# Altium integrated library TI Power Management Linear Regulator Single Channel LDO (400-7500mA).IntLib: 1408 symbols (part 54 of 60)
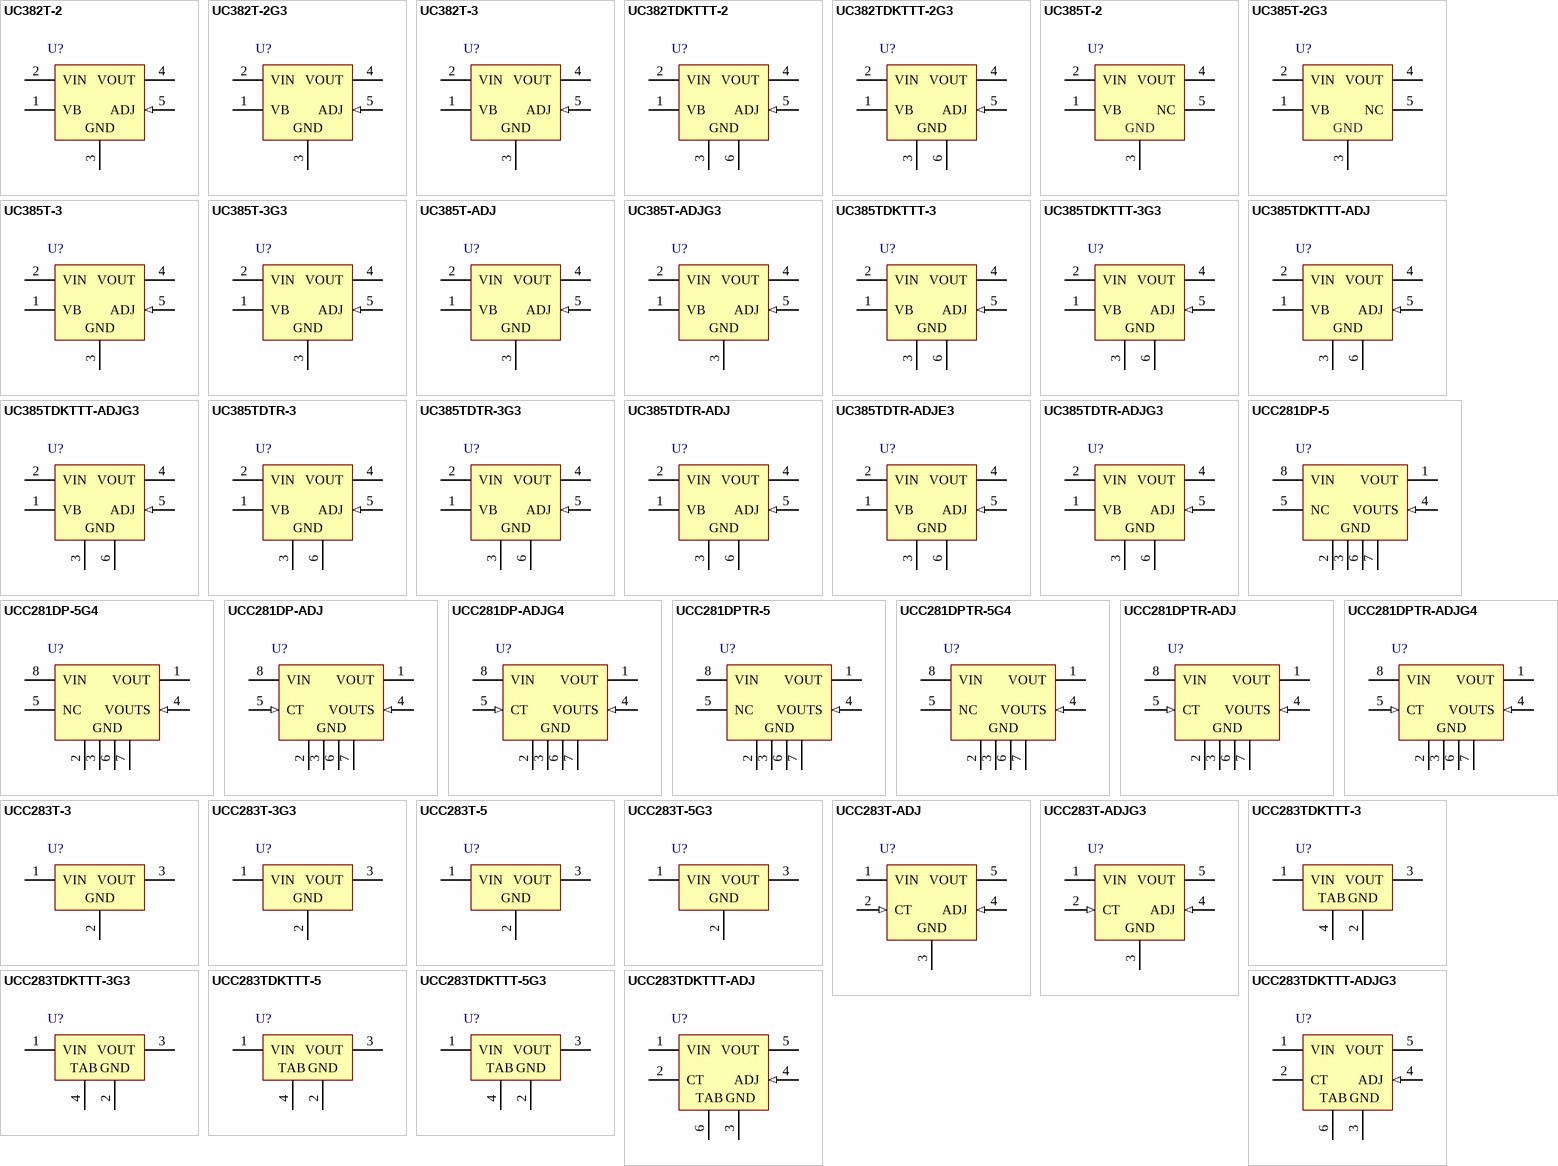
[diagram p103: symbols UC382T-2 to UCC283TDKTTT-ADJG3]

## UC385T-ADJG3
designator U?
Single Output Fast Transient Response LDO, 5 A, Adjustable 1.2 to 6 V Output, 1.7 to 7.5 V Input, with Reverse Current Protection, 5-pin TO-220 (KC), 0 to 70 degC, Green (RoHS & no Sb/Br); Manufacturer: Texas Instruments; PartNumber: UC385T-ADJG3; Accuracy(%): 1; Iout(Max)(A): 5; Iq(Typ)(mA): 8; SubFamily: Single Channel LDO; Vdo(Typ)(mV): 350; Vin(Max)(V): 7.5; Vin(Min)(V): 1.7; Vout Adj(Max)(V): 6; Vout Adj(Min)(V): 1.2; DatasheetVersion: SLUS212F; PackageVersion: 4040208/F; PackageReference: KC5; PackageDescription: 5-Pin Plastic Flange Mount; Supplier 1: Digi-Key; Supplier Part Number 1: UC385T-ADJG3-ND; Supplier 2: Mouser; Supplier Part Number 2: 595-UC385T-ADJG3; Eco-Plan: Green (RoHS & no Sb/Br); Mounting Technology: Through Hole; ComponentLink1Description: Manufacturer URL; ComponentLink1URL: http://www.ti.com/; ComponentLink2Description: Datasheet; ComponentLink2URL: http://www.ti.com/general/docs/lit/getliterature.tsp?genericPartNumber=UC385-ADJ&fileType=pdf; ComponentLink3Description: Package Specification; ComponentLink3URL: http://www.ti.com/litv/pdf/msot008c
footprint TI-KC5 (FM, 5-Leads, Body 10.16x8.46mm, Pitch 1.7mm,)
pins: 1 VB (power) "Supplies power to all circuits of the regulator except the output power transistor. The 2-V headroom from VB to VOUT allows the use of a Darlington output stage for inherently low output impedance and fast response. (Dropout (See Datasheet)", 2 VIN (power) "Supplies the current to the collector of the output power transistor only. The dropout (VIN-VOUT) is under 100 mV for light loads; maximum dropout is 490 mV at 5 A for TJ = 0degreesC to 100degreesC. (Dropout is derated for (See Datasheet)", 3 GND (power) "For accurate results, the GND pin should be referenced to the load ground.", 4 VOUT (power) "This pin should be connected to the load via a low impedance path. Avoid connectors which add significant inductance and resistance. Note that even though a Kelvin sense is available through a 5-pin package, care must be (See Datasheet)", 5 ADJ (in) "In the adjustable version, the user programs the output voltage with two external resistors. The resistors should be 0.1% for high accuracy. The output amplifier is configured as a noninverting operational amplifier. The (See Datasheet)"

## UC385TDKTTT-3
designator U?
Single Output Fast Transient Response LDO, 5 A, Fixed 2.5 V Output, 2.8 to 7.5 V Input, 5-pin DDPAK (KTT), 0 to 70 degC, Green (RoHS & no Sb/Br); Manufacturer: Texas Instruments; PartNumber: UC385TDKTTT-3; Accuracy(%): 1; Fixed Output Options(V): 2.5; Iout(Max)(A): 5; Iq(Typ)(mA): 8; SubFamily: Single Channel LDO; Vdo(Typ)(mV): 350; Vin(Max)(V): 7.5; Vin(Min)(V): 2.8; DatasheetVersion: SLUS212F; PackageVersion: 4200577-3/F; PackageReference: KTT5; PackageDescription: 3-Pin Plastic Flange Mount, Body 10.16 x 10.34 mm, Pitch 1.7 mm; Supplier 1: Digi-Key; Supplier Part Number 1: 296-16025-2-ND; Supplier 2: Digi-Key; Supplier Part Number 2: 296-16025-1-ND; Supplier 3: Digi-Key; Supplier Part Number 3: 296-16025-6-ND; Supplier 4: Newark; Supplier Part Number 4: 87H4747; Supplier 5: Mouser; Supplier Part Number 5: 595-UC385TDKTTT-3; Eco-Plan: Green (RoHS & no Sb/Br); Vout Adj(Max)(V): 2.5; Vout Adj(Min)(V): 2.5; Mounting Technology: Surface Mount; Code_JEDEC: TO-263; ComponentLink1Description: Manufacturer URL; ComponentLink1URL: http://www.ti.com/; ComponentLink2Description: Datasheet; ComponentLink2URL: http://www.ti.com/general/docs/lit/getliterature.tsp?genericPartNumber=UC385-3&fileType=pdf; ComponentLink3Description: Package Specification; ComponentLink3URL: http://www.ti.com/litv/pdf/mpsf007e
footprint TI-KTT5_N (DPAK, 5-Leads, Body 10.16x8.925mm, Pitch 1.7mm, IPC Medium Density)
footprint TI-KTT5_L (DPAK, 5-Leads, Body 10.16x8.925mm, Pitch 1.7mm, IPC High Density)
footprint TI-KTT5_M (DPAK, 5-Leads, Body 10.16x8.925mm, Pitch 1.7mm, IPC Low Density)
pins: 1 VB (power) "Supplies power to all circuits of the regulator except the output power transistor. The 2-V headroom from VB to VOUT allows the use of a Darlington output stage for inherently low output impedance and fast response. (Dropout (See Datasheet)", 2 VIN (power) "Supplies the current to the collector of the output power transistor only. The dropout (VIN-VOUT) is under 100 mV for light loads; maximum dropout is 490 mV at 5 A for TJ = 0degreesC to 100degreesC. (Dropout is derated for (See Datasheet)", 3 GND (power) "For accurate results, the GND pin should be referenced to the load ground", 4 VOUT (power) "This pin should be connected to the load via a low impedance path. Avoid connectors which add significant inductance and resistance. Note that even though a Kelvin sense is available through a 5-pin package, care must be (See Datasheet)", 5 ADJ (in) "In the adjustable version, the user programs the output voltage with two external resistors. The resistors should be 0.1% for high accuracy. The output amplifier is configured as a noninverting operational amplifier. The (See Datasheet)", 6 GND (power) "For accurate results, the GND pin should be referenced to the load ground"

## UC385TDKTTT-3G3
designator U?
Single Output Fast Transient Response LDO, 5 A, Fixed 2.5 V Output, 2.8 to 7.5 V Input, 5-pin DDPAK (KTT), 0 to 70 degC, Green (RoHS & no Sb/Br); Manufacturer: Texas Instruments; PartNumber: UC385TDKTTT-3G3; Accuracy(%): 1; Fixed Output Options(V): 2.5; Iout(Max)(A): 5; Iq(Typ)(mA): 8; SubFamily: Single Channel LDO; Vdo(Typ)(mV): 350; Vin(Max)(V): 7.5; Vin(Min)(V): 2.8; DatasheetVersion: SLUS212F; PackageVersion: 4200577-3/F; PackageReference: KTT5; PackageDescription: 3-Pin Plastic Flange Mount, Body 10.16 x 10.34 mm, Pitch 1.7 mm; Supplier 1: Digi-Key; Supplier Part Number 1: UC385TDKTTT-3G3-ND; Supplier 2: Mouser; Supplier Part Number 2: 595-UC385TDKTTT-3G3; Eco-Plan: Green (RoHS & no Sb/Br); Vout Adj(Max)(V): 2.5; Vout Adj(Min)(V): 2.5; Mounting Technology: Surface Mount; Code_JEDEC: TO-263; ComponentLink1Description: Manufacturer URL; ComponentLink1URL: http://www.ti.com/; ComponentLink2Description: Datasheet; ComponentLink2URL: http://www.ti.com/general/docs/lit/getliterature.tsp?genericPartNumber=UC385-3&fileType=pdf; ComponentLink3Description: Package Specification; ComponentLink3URL: http://www.ti.com/litv/pdf/mpsf007e
footprint TI-KTT5_N (DPAK, 5-Leads, Body 10.16x8.925mm, Pitch 1.7mm, IPC Medium Density)
footprint TI-KTT5_L (DPAK, 5-Leads, Body 10.16x8.925mm, Pitch 1.7mm, IPC High Density)
footprint TI-KTT5_M (DPAK, 5-Leads, Body 10.16x8.925mm, Pitch 1.7mm, IPC Low Density)
pins: 1 VB (power) "Supplies power to all circuits of the regulator except the output power transistor. The 2-V headroom from VB to VOUT allows the use of a Darlington output stage for inherently low output impedance and fast response. (Dropout (See Datasheet)", 2 VIN (power) "Supplies the current to the collector of the output power transistor only. The dropout (VIN-VOUT) is under 100 mV for light loads; maximum dropout is 490 mV at 5 A for TJ = 0degreesC to 100degreesC. (Dropout is derated for (See Datasheet)", 3 GND (power) "For accurate results, the GND pin should be referenced to the load ground", 4 VOUT (power) "This pin should be connected to the load via a low impedance path. Avoid connectors which add significant inductance and resistance. Note that even though a Kelvin sense is available through a 5-pin package, care must be (See Datasheet)", 5 ADJ (in) "In the adjustable version, the user programs the output voltage with two external resistors. The resistors should be 0.1% for high accuracy. The output amplifier is configured as a noninverting operational amplifier. The (See Datasheet)", 6 GND (power) "For accurate results, the GND pin should be referenced to the load ground"

## UC385TDKTTT-ADJ
designator U?
Single Output Fast Transient Response LDO, 5 A, Adjustable 1.2 to 6 V Output, 1.7 to 7.5 V Input, with Reverse Current Protection, 5-pin DDPAK (KTT), 0 to 70 degC, Green (RoHS & no Sb/Br); Manufacturer: Texas Instruments; PartNumber: UC385TDKTTT-ADJ; Accuracy(%): 1; Iout(Max)(A): 5; Iq(Typ)(mA): 8; SubFamily: Single Channel LDO; Vdo(Typ)(mV): 350; Vin(Max)(V): 7.5; Vin(Min)(V): 1.7; Vout Adj(Max)(V): 6; Vout Adj(Min)(V): 1.2; DatasheetVersion: SLUS212F; PackageVersion: 4200577-3/F; PackageReference: KTT5; PackageDescription: 3-Pin Plastic Flange Mount, Body 10.16 x 10.34 mm, Pitch 1.7 mm; Supplier 1: Digi-Key; Supplier Part Number 1: 296-16026-2-ND; Supplier 2: Digi-Key; Supplier Part Number 2: 296-16026-1-ND; Supplier 3: Digi-Key; Supplier Part Number 3: 296-16026-6-ND; Supplier 4: Newark; Supplier Part Number 4: 87H4744; Supplier 5: Mouser; Supplier Part Number 5: 595-UC385TDKTTT-ADJ; Eco-Plan: Green (RoHS & no Sb/Br); Mounting Technology: Surface Mount; Code_JEDEC: TO-263; ComponentLink1Description: Manufacturer URL; ComponentLink1URL: http://www.ti.com/; ComponentLink2Description: Datasheet; ComponentLink2URL: http://www.ti.com/general/docs/lit/getliterature.tsp?genericPartNumber=UC385-ADJ&fileType=pdf; ComponentLink3Description: Package Specification; ComponentLink3URL: http://www.ti.com/litv/pdf/mpsf007e
footprint TI-KTT5_N (DPAK, 5-Leads, Body 10.16x8.925mm, Pitch 1.7mm, IPC Medium Density)
footprint TI-KTT5_L (DPAK, 5-Leads, Body 10.16x8.925mm, Pitch 1.7mm, IPC High Density)
footprint TI-KTT5_M (DPAK, 5-Leads, Body 10.16x8.925mm, Pitch 1.7mm, IPC Low Density)
pins: 1 VB (power) "Supplies power to all circuits of the regulator except the output power transistor. The 2-V headroom from VB to VOUT allows the use of a Darlington output stage for inherently low output impedance and fast response. (Dropout (See Datasheet)", 2 VIN (power) "Supplies the current to the collector of the output power transistor only. The dropout (VIN-VOUT) is under 100 mV for light loads; maximum dropout is 490 mV at 5 A for TJ = 0degreesC to 100degreesC. (Dropout is derated for (See Datasheet)", 3 GND (power) "For accurate results, the GND pin should be referenced to the load ground", 4 VOUT (power) "This pin should be connected to the load via a low impedance path. Avoid connectors which add significant inductance and resistance. Note that even though a Kelvin sense is available through a 5-pin package, care must be (See Datasheet)", 5 ADJ (in) "In the adjustable version, the user programs the output voltage with two external resistors. The resistors should be 0.1% for high accuracy. The output amplifier is configured as a noninverting operational amplifier. The (See Datasheet)", 6 GND (power) "For accurate results, the GND pin should be referenced to the load ground"

## UC385TDKTTT-ADJG3
designator U?
Single Output Fast Transient Response LDO, 5 A, Adjustable 1.2 to 6 V Output, 1.7 to 7.5 V Input, with Reverse Current Protection, 5-pin DDPAK (KTT), 0 to 70 degC, Green (RoHS & no Sb/Br); Manufacturer: Texas Instruments; PartNumber: UC385TDKTTT-ADJG3; Accuracy(%): 1; Iout(Max)(A): 5; Iq(Typ)(mA): 8; SubFamily: Single Channel LDO; Vdo(Typ)(mV): 350; Vin(Max)(V): 7.5; Vin(Min)(V): 1.7; Vout Adj(Max)(V): 6; Vout Adj(Min)(V): 1.2; DatasheetVersion: SLUS212F; PackageVersion: 4200577-3/F; PackageReference: KTT5; PackageDescription: 3-Pin Plastic Flange Mount, Body 10.16 x 10.34 mm, Pitch 1.7 mm; Supplier 1: Digi-Key; Supplier Part Number 1: UC385TDKTTT-ADJG3-ND; Supplier 2: Newark; Supplier Part Number 2: 58K7132; Supplier 3: Mouser; Supplier Part Number 3: 595-UC385TDKTTADJG3; Eco-Plan: Green (RoHS & no Sb/Br); Mounting Technology: Surface Mount; Code_JEDEC: TO-263; ComponentLink1Description: Manufacturer URL; ComponentLink1URL: http://www.ti.com/; ComponentLink2Description: Datasheet; ComponentLink2URL: http://www.ti.com/general/docs/lit/getliterature.tsp?genericPartNumber=UC385-ADJ&fileType=pdf; ComponentLink3Description: Package Specification; ComponentLink3URL: http://www.ti.com/litv/pdf/mpsf007e
footprint TI-KTT5_N (DPAK, 5-Leads, Body 10.16x8.925mm, Pitch 1.7mm, IPC Medium Density)
footprint TI-KTT5_L (DPAK, 5-Leads, Body 10.16x8.925mm, Pitch 1.7mm, IPC High Density)
footprint TI-KTT5_M (DPAK, 5-Leads, Body 10.16x8.925mm, Pitch 1.7mm, IPC Low Density)
pins: 1 VB (power) "Supplies power to all circuits of the regulator except the output power transistor. The 2-V headroom from VB to VOUT allows the use of a Darlington output stage for inherently low output impedance and fast response. (Dropout (See Datasheet)", 2 VIN (power) "Supplies the current to the collector of the output power transistor only. The dropout (VIN-VOUT) is under 100 mV for light loads; maximum dropout is 490 mV at 5 A for TJ = 0degreesC to 100degreesC. (Dropout is derated for (See Datasheet)", 3 GND (power) "For accurate results, the GND pin should be referenced to the load ground", 4 VOUT (power) "This pin should be connected to the load via a low impedance path. Avoid connectors which add significant inductance and resistance. Note that even though a Kelvin sense is available through a 5-pin package, care must be (See Datasheet)", 5 ADJ (in) "In the adjustable version, the user programs the output voltage with two external resistors. The resistors should be 0.1% for high accuracy. The output amplifier is configured as a noninverting operational amplifier. The (See Datasheet)", 6 GND (power) "For accurate results, the GND pin should be referenced to the load ground"

## UC385TDTR-3
designator U?
Single Output Fast Transient Response LDO, 5 A, Fixed 2.5 V Output, 2.8 to 7.5 V Input, 5-pin DDPAK (KTT), 0 to 70 degC, Green (RoHS & no Sb/Br); Manufacturer: Texas Instruments; PartNumber: UC385TDTR-3; Accuracy(%): 1; Fixed Output Options(V): 2.5; Iout(Max)(A): 5; Iq(Typ)(mA): 8; SubFamily: Single Channel LDO; Vdo(Typ)(mV): 350; Vin(Max)(V): 7.5; Vin(Min)(V): 2.8; DatasheetVersion: SLUS212F; PackageVersion: 4200577-3/F; PackageReference: KTT5; PackageDescription: 3-Pin Plastic Flange Mount, Body 10.16 x 10.34 mm, Pitch 1.7 mm; Supplier 1: Digi-Key; Supplier Part Number 1: 296-19034-2-ND; Supplier 2: Digi-Key; Supplier Part Number 2: 296-19034-1-ND; Supplier 3: Digi-Key; Supplier Part Number 3: 296-19034-6-ND; Supplier 4: Mouser; Supplier Part Number 4: 595-UC385TDTR-3; Eco-Plan: Green (RoHS & no Sb/Br); Vout Adj(Max)(V): 2.5; Vout Adj(Min)(V): 2.5; Mounting Technology: Surface Mount; Code_JEDEC: TO-263; ComponentLink1Description: Manufacturer URL; ComponentLink1URL: http://www.ti.com/; ComponentLink2Description: Datasheet; ComponentLink2URL: http://www.ti.com/general/docs/lit/getliterature.tsp?genericPartNumber=UC385-3&fileType=pdf; ComponentLink3Description: Package Specification; ComponentLink3URL: http://www.ti.com/litv/pdf/mpsf007e
footprint TI-KTT5_N (DPAK, 5-Leads, Body 10.16x8.925mm, Pitch 1.7mm, IPC Medium Density)
footprint TI-KTT5_L (DPAK, 5-Leads, Body 10.16x8.925mm, Pitch 1.7mm, IPC High Density)
footprint TI-KTT5_M (DPAK, 5-Leads, Body 10.16x8.925mm, Pitch 1.7mm, IPC Low Density)
pins: 1 VB (power) "Supplies power to all circuits of the regulator except the output power transistor. The 2-V headroom from VB to VOUT allows the use of a Darlington output stage for inherently low output impedance and fast response. (Dropout (See Datasheet)", 2 VIN (power) "Supplies the current to the collector of the output power transistor only. The dropout (VIN-VOUT) is under 100 mV for light loads; maximum dropout is 490 mV at 5 A for TJ = 0degreesC to 100degreesC. (Dropout is derated for (See Datasheet)", 3 GND (power) "For accurate results, the GND pin should be referenced to the load ground", 4 VOUT (power) "This pin should be connected to the load via a low impedance path. Avoid connectors which add significant inductance and resistance. Note that even though a Kelvin sense is available through a 5-pin package, care must be (See Datasheet)", 5 ADJ (in) "In the adjustable version, the user programs the output voltage with two external resistors. The resistors should be 0.1% for high accuracy. The output amplifier is configured as a noninverting operational amplifier. The (See Datasheet)", 6 GND (power) "For accurate results, the GND pin should be referenced to the load ground"

## UC385TDTR-3G3
designator U?
Single Output Fast Transient Response LDO, 5 A, Fixed 2.5 V Output, 2.8 to 7.5 V Input, 5-pin DDPAK (KTT), 0 to 70 degC, Green (RoHS & no Sb/Br); Manufacturer: Texas Instruments; PartNumber: UC385TDTR-3G3; Accuracy(%): 1; Fixed Output Options(V): 2.5; Iout(Max)(A): 5; Iq(Typ)(mA): 8; SubFamily: Single Channel LDO; Vdo(Typ)(mV): 350; Vin(Max)(V): 7.5; Vin(Min)(V): 2.8; DatasheetVersion: SLUS212F; PackageVersion: 4200577-3/F; PackageReference: KTT5; PackageDescription: 3-Pin Plastic Flange Mount, Body 10.16 x 10.34 mm, Pitch 1.7 mm; Supplier 1: Digi-Key; Supplier Part Number 1: UC385TDTR-3G3-ND; Supplier 2: Mouser; Supplier Part Number 2: 595-UC385TDTR-3G3; Eco-Plan: Green (RoHS & no Sb/Br); Vout Adj(Max)(V): 2.5; Vout Adj(Min)(V): 2.5; Mounting Technology: Surface Mount; Code_JEDEC: TO-263; ComponentLink1Description: Manufacturer URL; ComponentLink1URL: http://www.ti.com/; ComponentLink2Description: Datasheet; ComponentLink2URL: http://www.ti.com/general/docs/lit/getliterature.tsp?genericPartNumber=UC385-3&fileType=pdf; ComponentLink3Description: Package Specification; ComponentLink3URL: http://www.ti.com/litv/pdf/mpsf007e
footprint TI-KTT5_N (DPAK, 5-Leads, Body 10.16x8.925mm, Pitch 1.7mm, IPC Medium Density)
footprint TI-KTT5_L (DPAK, 5-Leads, Body 10.16x8.925mm, Pitch 1.7mm, IPC High Density)
footprint TI-KTT5_M (DPAK, 5-Leads, Body 10.16x8.925mm, Pitch 1.7mm, IPC Low Density)
pins: 1 VB (power) "Supplies power to all circuits of the regulator except the output power transistor. The 2-V headroom from VB to VOUT allows the use of a Darlington output stage for inherently low output impedance and fast response. (Dropout (See Datasheet)", 2 VIN (power) "Supplies the current to the collector of the output power transistor only. The dropout (VIN-VOUT) is under 100 mV for light loads; maximum dropout is 490 mV at 5 A for TJ = 0degreesC to 100degreesC. (Dropout is derated for (See Datasheet)", 3 GND (power) "For accurate results, the GND pin should be referenced to the load ground", 4 VOUT (power) "This pin should be connected to the load via a low impedance path. Avoid connectors which add significant inductance and resistance. Note that even though a Kelvin sense is available through a 5-pin package, care must be (See Datasheet)", 5 ADJ (in) "In the adjustable version, the user programs the output voltage with two external resistors. The resistors should be 0.1% for high accuracy. The output amplifier is configured as a noninverting operational amplifier. The (See Datasheet)", 6 GND (power) "For accurate results, the GND pin should be referenced to the load ground"

## UC385TDTR-ADJ
designator U?
Single Output Fast Transient Response LDO, 5 A, Adjustable 1.2 to 6 V Output, 1.7 to 7.5 V Input, with Reverse Current Protection, 5-pin DDPAK (KTT), 0 to 70 degC, Green (RoHS & no Sb/Br); Manufacturer: Texas Instruments; PartNumber: UC385TDTR-ADJ; Accuracy(%): 1; Iout(Max)(A): 5; Iq(Typ)(mA): 8; SubFamily: Single Channel LDO; Vdo(Typ)(mV): 350; Vin(Max)(V): 7.5; Vin(Min)(V): 1.7; Vout Adj(Max)(V): 6; Vout Adj(Min)(V): 1.2; DatasheetVersion: SLUS212F; PackageVersion: 4200577-3/F; PackageReference: KTT5; PackageDescription: 3-Pin Plastic Flange Mount, Body 10.16 x 10.34 mm, Pitch 1.7 mm; Supplier 1: Digi-Key; Supplier Part Number 1: UC385TDTR-ADJ-ND; Supplier 2: Newark; Supplier Part Number 2: 22H2024; Supplier 3: Mouser; Supplier Part Number 3: 595-UC385TDTR-ADJ; Eco-Plan: Green (RoHS & no Sb/Br); Mounting Technology: Surface Mount; Code_JEDEC: TO-263; ComponentLink1Description: Manufacturer URL; ComponentLink1URL: http://www.ti.com/; ComponentLink2Description: Datasheet; ComponentLink2URL: http://www.ti.com/general/docs/lit/getliterature.tsp?genericPartNumber=UC385-ADJ&fileType=pdf; ComponentLink3Description: Package Specification; ComponentLink3URL: http://www.ti.com/litv/pdf/mpsf007e
footprint TI-KTT5_N (DPAK, 5-Leads, Body 10.16x8.925mm, Pitch 1.7mm, IPC Medium Density)
footprint TI-KTT5_L (DPAK, 5-Leads, Body 10.16x8.925mm, Pitch 1.7mm, IPC High Density)
footprint TI-KTT5_M (DPAK, 5-Leads, Body 10.16x8.925mm, Pitch 1.7mm, IPC Low Density)
pins: 1 VB (power) "Supplies power to all circuits of the regulator except the output power transistor. The 2-V headroom from VB to VOUT allows the use of a Darlington output stage for inherently low output impedance and fast response. (Dropout (See Datasheet)", 2 VIN (power) "Supplies the current to the collector of the output power transistor only. The dropout (VIN-VOUT) is under 100 mV for light loads; maximum dropout is 490 mV at 5 A for TJ = 0degreesC to 100degreesC. (Dropout is derated for (See Datasheet)", 3 GND (power) "For accurate results, the GND pin should be referenced to the load ground", 4 VOUT (power) "This pin should be connected to the load via a low impedance path. Avoid connectors which add significant inductance and resistance. Note that even though a Kelvin sense is available through a 5-pin package, care must be (See Datasheet)", 5 ADJ (in) "In the adjustable version, the user programs the output voltage with two external resistors. The resistors should be 0.1% for high accuracy. The output amplifier is configured as a noninverting operational amplifier. The (See Datasheet)", 6 GND (power) "For accurate results, the GND pin should be referenced to the load ground"

## UC385TDTR-ADJE3
designator U?
Single Output Fast Transient Response LDO, 5 A, Adjustable 1.2 to 6 V Output, 1.7 to 7.5 V Input, with Reverse Current Protection, 5-pin DDPAK (KTT), 0 to 70 degC, Green (RoHS & no Sb/Br); Manufacturer: Texas Instruments; PartNumber: UC385TDTR-ADJE3; Accuracy(%): 1; Iout(Max)(A): 5; Iq(Typ)(mA): 8; SubFamily: Single Channel LDO; Vdo(Typ)(mV): 350; Vin(Max)(V): 7.5; Vin(Min)(V): 1.7; Vout Adj(Max)(V): 6; Vout Adj(Min)(V): 1.2; DatasheetVersion: SLUS212F; PackageVersion: 4200577-3/F; PackageReference: KTT5; PackageDescription: 3-Pin Plastic Flange Mount, Body 10.16 x 10.34 mm, Pitch 1.7 mm; Supplier 1: Digi-Key; Supplier Part Number 1: UC385TDTR-ADJE3-ND; Supplier 2: Mouser; Supplier Part Number 2: 595-UC385TDTR-ADJE3; Eco-Plan: Green (RoHS & no Sb/Br); Mounting Technology: Surface Mount; Code_JEDEC: TO-263; ComponentLink1Description: Manufacturer URL; ComponentLink1URL: http://www.ti.com/; ComponentLink2Description: Datasheet; ComponentLink2URL: http://www.ti.com/general/docs/lit/getliterature.tsp?genericPartNumber=UC385-ADJ&fileType=pdf; ComponentLink3Description: Package Specification; ComponentLink3URL: http://www.ti.com/litv/pdf/mpsf007e
footprint TI-KTT5_N (DPAK, 5-Leads, Body 10.16x8.925mm, Pitch 1.7mm, IPC Medium Density)
footprint TI-KTT5_L (DPAK, 5-Leads, Body 10.16x8.925mm, Pitch 1.7mm, IPC High Density)
footprint TI-KTT5_M (DPAK, 5-Leads, Body 10.16x8.925mm, Pitch 1.7mm, IPC Low Density)
pins: 1 VB (power) "Supplies power to all circuits of the regulator except the output power transistor. The 2-V headroom from VB to VOUT allows the use of a Darlington output stage for inherently low output impedance and fast response. (Dropout (See Datasheet)", 2 VIN (power) "Supplies the current to the collector of the output power transistor only. The dropout (VIN-VOUT) is under 100 mV for light loads; maximum dropout is 490 mV at 5 A for TJ = 0degreesC to 100degreesC. (Dropout is derated for (See Datasheet)", 3 GND (power) "For accurate results, the GND pin should be referenced to the load ground", 4 VOUT (power) "This pin should be connected to the load via a low impedance path. Avoid connectors which add significant inductance and resistance. Note that even though a Kelvin sense is available through a 5-pin package, care must be (See Datasheet)", 5 ADJ (in) "In the adjustable version, the user programs the output voltage with two external resistors. The resistors should be 0.1% for high accuracy. The output amplifier is configured as a noninverting operational amplifier. The (See Datasheet)", 6 GND (power) "For accurate results, the GND pin should be referenced to the load ground"

## UC385TDTR-ADJG3
designator U?
Single Output Fast Transient Response LDO, 5 A, Adjustable 1.2 to 6 V Output, 1.7 to 7.5 V Input, with Reverse Current Protection, 5-pin DDPAK (KTT), 0 to 70 degC, Green (RoHS & no Sb/Br); Manufacturer: Texas Instruments; PartNumber: UC385TDTR-ADJG3; Accuracy(%): 1; Iout(Max)(A): 5; Iq(Typ)(mA): 8; SubFamily: Single Channel LDO; Vdo(Typ)(mV): 350; Vin(Max)(V): 7.5; Vin(Min)(V): 1.7; Vout Adj(Max)(V): 6; Vout Adj(Min)(V): 1.2; DatasheetVersion: SLUS212F; PackageVersion: 4200577-3/F; PackageReference: KTT5; PackageDescription: 3-Pin Plastic Flange Mount, Body 10.16 x 10.34 mm, Pitch 1.7 mm; Supplier 1: Digi-Key; Supplier Part Number 1: UC385TDTR-ADJG3-ND; Supplier 2: Mouser; Supplier Part Number 2: 595-UC385TDTR-ADJG3; Eco-Plan: Green (RoHS & no Sb/Br); Mounting Technology: Surface Mount; Code_JEDEC: TO-263; ComponentLink1Description: Manufacturer URL; ComponentLink1URL: http://www.ti.com/; ComponentLink2Description: Datasheet; ComponentLink2URL: http://www.ti.com/general/docs/lit/getliterature.tsp?genericPartNumber=UC385-ADJ&fileType=pdf; ComponentLink3Description: Package Specification; ComponentLink3URL: http://www.ti.com/litv/pdf/mpsf007e
footprint TI-KTT5_N (DPAK, 5-Leads, Body 10.16x8.925mm, Pitch 1.7mm, IPC Medium Density)
footprint TI-KTT5_L (DPAK, 5-Leads, Body 10.16x8.925mm, Pitch 1.7mm, IPC High Density)
footprint TI-KTT5_M (DPAK, 5-Leads, Body 10.16x8.925mm, Pitch 1.7mm, IPC Low Density)
pins: 1 VB (power) "Supplies power to all circuits of the regulator except the output power transistor. The 2-V headroom from VB to VOUT allows the use of a Darlington output stage for inherently low output impedance and fast response. (Dropout (See Datasheet)", 2 VIN (power) "Supplies the current to the collector of the output power transistor only. The dropout (VIN-VOUT) is under 100 mV for light loads; maximum dropout is 490 mV at 5 A for TJ = 0degreesC to 100degreesC. (Dropout is derated for (See Datasheet)", 3 GND (power) "For accurate results, the GND pin should be referenced to the load ground", 4 VOUT (power) "This pin should be connected to the load via a low impedance path. Avoid connectors which add significant inductance and resistance. Note that even though a Kelvin sense is available through a 5-pin package, care must be (See Datasheet)", 5 ADJ (in) "In the adjustable version, the user programs the output voltage with two external resistors. The resistors should be 0.1% for high accuracy. The output amplifier is configured as a noninverting operational amplifier. The (See Datasheet)", 6 GND (power) "For accurate results, the GND pin should be referenced to the load ground"

## UCC281DP-5
designator U?
Single Output LDO, 1 A, Fixed 5 V Output, 5.6 to 9 V Input, with Low IQ, 8-pin SOIC (D), -40 to 85 degC, Green (RoHS & no Sb/Br); Manufacturer: Texas Instruments; PartNumber: UCC281DP-5; Accuracy(%): 2.5; Fixed Output Options(V): 5; Iout(Max)(A): 1; Iq(Typ)(mA): 0.4; Rating: Catalog; SubFamily: Single Channel LDO; Vdo(Typ)(mV): 500; Vin(Max)(V): 9; Vin(Min)(V): 5.6; DatasheetVersion: SLUS214B; PackageVersion: 4040047-3/M; PackageReference: D8; PackageDescription: 8-Pin Plastic Small Outline, Body 4.9 x 3.9 mm, Pitch 1.27 mm; Supplier 1: Digi-Key; Supplier Part Number 1: 296-2817-5-ND; Supplier 2: Mouser; Supplier Part Number 2: 595-UCC281DP-5; Eco-Plan: Green (RoHS & no Sb/Br); Vout Adj(Max)(V): 5; Vout Adj(Min)(V): 5; Mounting Technology: Surface Mount; Code_JEDEC: MS-012; ComponentLink1Description: Manufacturer URL; ComponentLink1URL: http://www.ti.com/; ComponentLink2Description: Datasheet; ComponentLink2URL: http://www.ti.com/general/docs/lit/getliterature.tsp?genericPartNumber=UCC281-5&fileType=pdf; ComponentLink3Description: Package Specification; ComponentLink3URL: http://www.ti.com/litv/pdf/msoi002j; ComponentLink4Description: URL Link1; ComponentLink4URL: Samples URL:http://www.ti.com/product/ucc281-5#samples
footprint TI-D8_N (SOIC, 8-Leads, Body 4.9x3.9mm, Pitch 1.27mm, IPC Medium Density)
footprint TI-D8_L (SOIC, 8-Leads, Body 4.9x3.9mm, Pitch 1.27mm, IPC High Density)
footprint TI-D8_M (SOIC, 8-Leads, Body 4.9x3.9mm, Pitch 1.27mm, IPC Low Density)
pins: 1 VOUT (power) "Output for regulator. The regulator does not require a minimum output capacitor for stability. Choose the appropriate size capacitor for the application with respect to the required transient loading. For example, if the (See Datasheet)", 2 GND (power) "All voltages are measured with respect to this pin.This is the low noise ground reference input for regulation. The output decoupling capacitor should be tied to PIN 7.", 3 GND (power) "All voltages are measured with respect to this pin.This is the low noise ground reference input for regulation. The output decoupling capacitor should be tied to PIN 7.", 4 VOUTS (in) "Feedback for regulator sensing of the output voltage. For loads which are a considerable resistive distance from the VOUT pin, the VOUTS pin can be used to move the resistance into the control loop of the regulator,thereby (See Datasheet)", 5 NC "No connection", 6 GND (power) "All voltages are measured with respect to this pin.This is the low noise ground reference input for regulation. The output decoupling capacitor should be tied to PIN 7.", 7 GND (power) "All voltages are measured with respect to this pin.This is the low noise ground reference input for regulation. The output decoupling capacitor should be tied to PIN 7.", 8 VIN (power) "Positive supply input for the regulator. Bypass this pin to GND with at least 1µF of low ESR, ESL capacitance if the source is located further than 1 inch from the device."

## UCC281DP-5G4
designator U?
Single Output LDO, 1 A, Fixed 5 V Output, 5.6 to 9 V Input, with Low IQ, 8-pin SOIC (D), -40 to 85 degC, Green (RoHS & no Sb/Br); Manufacturer: Texas Instruments; PartNumber: UCC281DP-5G4; Accuracy(%): 2.5; Fixed Output Options(V): 5; Iout(Max)(A): 1; Iq(Typ)(mA): 0.4; Rating: Catalog; SubFamily: Single Channel LDO; Vdo(Typ)(mV): 500; Vin(Max)(V): 9; Vin(Min)(V): 5.6; DatasheetVersion: SLUS214B; PackageVersion: 4040047-3/M; PackageReference: D8; PackageDescription: 8-Pin Plastic Small Outline, Body 4.9 x 3.9 mm, Pitch 1.27 mm; Supplier 1: Digi-Key; Supplier Part Number 1: UCC281DP-5G4-ND; Supplier 2: Mouser; Supplier Part Number 2: 595-UCC281DP-5G4; Eco-Plan: Green (RoHS & no Sb/Br); Vout Adj(Max)(V): 5; Vout Adj(Min)(V): 5; Mounting Technology: Surface Mount; Code_JEDEC: MS-012; ComponentLink1Description: Manufacturer URL; ComponentLink1URL: http://www.ti.com/; ComponentLink2Description: Datasheet; ComponentLink2URL: http://www.ti.com/general/docs/lit/getliterature.tsp?genericPartNumber=UCC281-5&fileType=pdf; ComponentLink3Description: Package Specification; ComponentLink3URL: http://www.ti.com/litv/pdf/msoi002j; ComponentLink4Description: URL Link1; ComponentLink4URL: Samples URL:http://www.ti.com/product/ucc281-5#samples
footprint TI-D8_N (SOIC, 8-Leads, Body 4.9x3.9mm, Pitch 1.27mm, IPC Medium Density)
footprint TI-D8_L (SOIC, 8-Leads, Body 4.9x3.9mm, Pitch 1.27mm, IPC High Density)
footprint TI-D8_M (SOIC, 8-Leads, Body 4.9x3.9mm, Pitch 1.27mm, IPC Low Density)
pins: 1 VOUT (power) "Output for regulator. The regulator does not require a minimum output capacitor for stability. Choose the appropriate size capacitor for the application with respect to the required transient loading. For example, if the (See Datasheet)", 2 GND (power) "All voltages are measured with respect to this pin.This is the low noise ground reference input for regulation. The output decoupling capacitor should be tied to PIN 7.", 3 GND (power) "All voltages are measured with respect to this pin.This is the low noise ground reference input for regulation. The output decoupling capacitor should be tied to PIN 7.", 4 VOUTS (in) "Feedback for regulator sensing of the output voltage. For loads which are a considerable resistive distance from the VOUT pin, the VOUTS pin can be used to move the resistance into the control loop of the regulator,thereby (See Datasheet)", 5 NC "No connection", 6 GND (power) "All voltages are measured with respect to this pin.This is the low noise ground reference input for regulation. The output decoupling capacitor should be tied to PIN 7.", 7 GND (power) "All voltages are measured with respect to this pin.This is the low noise ground reference input for regulation. The output decoupling capacitor should be tied to PIN 7.", 8 VIN (power) "Positive supply input for the regulator. Bypass this pin to GND with at least 1µF of low ESR, ESL capacitance if the source is located further than 1 inch from the device."

## UCC281DP-ADJ
designator U?
Single Output LDO, 1 A, Adjustable 1.2 to 8.8 V Output, 1.8 to 9 V Input, with Low IQ, 8-pin SOIC (D), -40 to 85 degC, Green (RoHS & no Sb/Br); Manufacturer: Texas Instruments; PartNumber: UCC281DP-ADJ; Accuracy(%): 2.5; Iout(Max)(A): 1; Iq(Typ)(mA): 0.4; Rating: Catalog; SubFamily: Single Channel LDO; Vdo(Typ)(mV): 500; Vin(Max)(V): 9; Vin(Min)(V): 1.8; Vout Adj(Max)(V): 8.8; Vout Adj(Min)(V): 1.2; DatasheetVersion: SLUS214B; PackageVersion: 4040047-3/M; PackageReference: D8; PackageDescription: 8-Pin Plastic Small Outline, Body 4.9 x 3.9 mm, Pitch 1.27 mm; Supplier 1: Digi-Key; Supplier Part Number 1: 296-2818-5-ND; Supplier 2: Mouser; Supplier Part Number 2: 595-UCC281DP-ADJ; Eco-Plan: Green (RoHS & no Sb/Br); Mounting Technology: Surface Mount; Code_JEDEC: MS-012; ComponentLink1Description: Manufacturer URL; ComponentLink1URL: http://www.ti.com/; ComponentLink2Description: Datasheet; ComponentLink2URL: http://www.ti.com/general/docs/lit/getliterature.tsp?genericPartNumber=UCC281-ADJ&fileType=pdf; ComponentLink3Description: Package Specification; ComponentLink3URL: http://www.ti.com/litv/pdf/msoi002j; ComponentLink4Description: URL Link1; ComponentLink4URL: Samples URL:http://www.ti.com/product/ucc281-adj#samples
footprint TI-D8_N (SOIC, 8-Leads, Body 4.9x3.9mm, Pitch 1.27mm, IPC Medium Density)
footprint TI-D8_L (SOIC, 8-Leads, Body 4.9x3.9mm, Pitch 1.27mm, IPC High Density)
footprint TI-D8_M (SOIC, 8-Leads, Body 4.9x3.9mm, Pitch 1.27mm, IPC Low Density)
pins: 1 VOUT (power) "Output for regulator. The regulator does not require a minimum output capacitor for stability. Choose the appropriate size capacitor for the application with respect to the required transient loading. For example, if the (See Datasheet)", 2 GND (power) "All voltages are measured with respect to this pin.This is the low noise ground reference input for regulation. The output decoupling capacitor should be tied to PIN 7.", 3 GND (power) "All voltages are measured with respect to this pin.This is the low noise ground reference input for regulation. The output decoupling capacitor should be tied to PIN 7.", 4 VOUTS (in) "Feedback for regulator sensing of the output voltage. For loads which are a considerable resistive distance from the VOUT pin, the VOUTS pin can be used to move the resistance into the control loop of the regulator,thereby (See Datasheet)", 5 CT (in) "For UCC381-3 and UCC381-5 versions, this is the shutdown pin which, when pulled low, turns off the regulator output and puts the device in a low current state.For the UCC381-ADJ version, a capacitor is required between the (See Datasheet)", 6 GND (power) "All voltages are measured with respect to this pin.This is the low noise ground reference input for regulation. The output decoupling capacitor should be tied to PIN 7.", 7 GND (power) "All voltages are measured with respect to this pin.This is the low noise ground reference input for regulation. The output decoupling capacitor should be tied to PIN 7.", 8 VIN (power) "Positive supply input for the regulator. Bypass this pin to GND with at least 1µF of low ESR, ESL capacitance if the source is located further than 1 inch from the device."

## UCC281DP-ADJG4
designator U?
Single Output LDO, 1 A, Adjustable 1.2 to 8.8 V Output, 1.8 to 9 V Input, with Low IQ, 8-pin SOIC (D), -40 to 85 degC, Green (RoHS & no Sb/Br); Manufacturer: Texas Instruments; PartNumber: UCC281DP-ADJG4; Accuracy(%): 2.5; Iout(Max)(A): 1; Iq(Typ)(mA): 0.4; Rating: Catalog; SubFamily: Single Channel LDO; Vdo(Typ)(mV): 500; Vin(Max)(V): 9; Vin(Min)(V): 1.8; Vout Adj(Max)(V): 8.8; Vout Adj(Min)(V): 1.2; DatasheetVersion: SLUS214B; PackageVersion: 4040047-3/M; PackageReference: D8; PackageDescription: 8-Pin Plastic Small Outline, Body 4.9 x 3.9 mm, Pitch 1.27 mm; Supplier 1: Digi-Key; Supplier Part Number 1: UCC281DP-ADJG4-ND; Supplier 2: Newark; Supplier Part Number 2: 41M6408; Supplier 3: Mouser; Supplier Part Number 3: 595-UCC281DP-ADJG4; Eco-Plan: Green (RoHS & no Sb/Br); Mounting Technology: Surface Mount; Code_JEDEC: MS-012; ComponentLink1Description: Manufacturer URL; ComponentLink1URL: http://www.ti.com/; ComponentLink2Description: Datasheet; ComponentLink2URL: http://www.ti.com/general/docs/lit/getliterature.tsp?genericPartNumber=UCC281-ADJ&fileType=pdf; ComponentLink3Description: Package Specification; ComponentLink3URL: http://www.ti.com/litv/pdf/msoi002j; ComponentLink4Description: URL Link1; ComponentLink4URL: Samples URL:http://www.ti.com/product/ucc281-adj#samples
footprint TI-D8_N (SOIC, 8-Leads, Body 4.9x3.9mm, Pitch 1.27mm, IPC Medium Density)
footprint TI-D8_L (SOIC, 8-Leads, Body 4.9x3.9mm, Pitch 1.27mm, IPC High Density)
footprint TI-D8_M (SOIC, 8-Leads, Body 4.9x3.9mm, Pitch 1.27mm, IPC Low Density)
pins: 1 VOUT (power) "Output for regulator. The regulator does not require a minimum output capacitor for stability. Choose the appropriate size capacitor for the application with respect to the required transient loading. For example, if the (See Datasheet)", 2 GND (power) "All voltages are measured with respect to this pin.This is the low noise ground reference input for regulation. The output decoupling capacitor should be tied to PIN 7.", 3 GND (power) "All voltages are measured with respect to this pin.This is the low noise ground reference input for regulation. The output decoupling capacitor should be tied to PIN 7.", 4 VOUTS (in) "Feedback for regulator sensing of the output voltage. For loads which are a considerable resistive distance from the VOUT pin, the VOUTS pin can be used to move the resistance into the control loop of the regulator,thereby (See Datasheet)", 5 CT (in) "For UCC381-3 and UCC381-5 versions, this is the shutdown pin which, when pulled low, turns off the regulator output and puts the device in a low current state.For the UCC381-ADJ version, a capacitor is required between the (See Datasheet)", 6 GND (power) "All voltages are measured with respect to this pin.This is the low noise ground reference input for regulation. The output decoupling capacitor should be tied to PIN 7.", 7 GND (power) "All voltages are measured with respect to this pin.This is the low noise ground reference input for regulation. The output decoupling capacitor should be tied to PIN 7.", 8 VIN (power) "Positive supply input for the regulator. Bypass this pin to GND with at least 1µF of low ESR, ESL capacitance if the source is located further than 1 inch from the device."

## UCC281DPTR-5
designator U?
Single Output LDO, 1 A, Fixed 5 V Output, 5.6 to 9 V Input, with Low IQ, 8-pin SOIC (D), -40 to 85 degC, Green (RoHS & no Sb/Br); Manufacturer: Texas Instruments; PartNumber: UCC281DPTR-5; Accuracy(%): 2.5; Fixed Output Options(V): 5; Iout(Max)(A): 1; Iq(Typ)(mA): 0.4; Rating: Catalog; SubFamily: Single Channel LDO; Vdo(Typ)(mV): 500; Vin(Max)(V): 9; Vin(Min)(V): 5.6; DatasheetVersion: SLUS214B; PackageVersion: 4040047-3/M; PackageReference: D8; PackageDescription: 8-Pin Plastic Small Outline, Body 4.9 x 3.9 mm, Pitch 1.27 mm; Supplier 1: Digi-Key; Supplier Part Number 1: UCC281DPTR-5-ND; Supplier 2: Mouser; Supplier Part Number 2: 595-UCC281DPTR-5; Eco-Plan: Green (RoHS & no Sb/Br); Vout Adj(Max)(V): 5; Vout Adj(Min)(V): 5; Mounting Technology: Surface Mount; Code_JEDEC: MS-012; ComponentLink1Description: Manufacturer URL; ComponentLink1URL: http://www.ti.com/; ComponentLink2Description: Datasheet; ComponentLink2URL: http://www.ti.com/general/docs/lit/getliterature.tsp?genericPartNumber=UCC281-5&fileType=pdf; ComponentLink3Description: Package Specification; ComponentLink3URL: http://www.ti.com/litv/pdf/msoi002j; ComponentLink4Description: URL Link1; ComponentLink4URL: Samples URL:http://www.ti.com/product/ucc281-5#samples
footprint TI-D8_N (SOIC, 8-Leads, Body 4.9x3.9mm, Pitch 1.27mm, IPC Medium Density)
footprint TI-D8_L (SOIC, 8-Leads, Body 4.9x3.9mm, Pitch 1.27mm, IPC High Density)
footprint TI-D8_M (SOIC, 8-Leads, Body 4.9x3.9mm, Pitch 1.27mm, IPC Low Density)
pins: 1 VOUT (power) "Output for regulator. The regulator does not require a minimum output capacitor for stability. Choose the appropriate size capacitor for the application with respect to the required transient loading. For example, if the (See Datasheet)", 2 GND (power) "All voltages are measured with respect to this pin.This is the low noise ground reference input for regulation. The output decoupling capacitor should be tied to PIN 7.", 3 GND (power) "All voltages are measured with respect to this pin.This is the low noise ground reference input for regulation. The output decoupling capacitor should be tied to PIN 7.", 4 VOUTS (in) "Feedback for regulator sensing of the output voltage. For loads which are a considerable resistive distance from the VOUT pin, the VOUTS pin can be used to move the resistance into the control loop of the regulator,thereby (See Datasheet)", 5 NC "No connection", 6 GND (power) "All voltages are measured with respect to this pin.This is the low noise ground reference input for regulation. The output decoupling capacitor should be tied to PIN 7.", 7 GND (power) "All voltages are measured with respect to this pin.This is the low noise ground reference input for regulation. The output decoupling capacitor should be tied to PIN 7.", 8 VIN (power) "Positive supply input for the regulator. Bypass this pin to GND with at least 1µF of low ESR, ESL capacitance if the source is located further than 1 inch from the device."

## UCC281DPTR-5G4
designator U?
Single Output LDO, 1 A, Fixed 5 V Output, 5.6 to 9 V Input, with Low IQ, 8-pin SOIC (D), -40 to 85 degC, Green (RoHS & no Sb/Br); Manufacturer: Texas Instruments; PartNumber: UCC281DPTR-5G4; Accuracy(%): 2.5; Fixed Output Options(V): 5; Iout(Max)(A): 1; Iq(Typ)(mA): 0.4; Rating: Catalog; SubFamily: Single Channel LDO; Vdo(Typ)(mV): 500; Vin(Max)(V): 9; Vin(Min)(V): 5.6; DatasheetVersion: SLUS214B; PackageVersion: 4040047-3/M; PackageReference: D8; PackageDescription: 8-Pin Plastic Small Outline, Body 4.9 x 3.9 mm, Pitch 1.27 mm; Supplier 1: Digi-Key; Supplier Part Number 1: UCC281DPTR-5G4-ND; Supplier 2: Mouser; Supplier Part Number 2: 595-UCC281DPTR-5G4; Eco-Plan: Green (RoHS & no Sb/Br); Vout Adj(Max)(V): 5; Vout Adj(Min)(V): 5; Mounting Technology: Surface Mount; Code_JEDEC: MS-012; ComponentLink1Description: Manufacturer URL; ComponentLink1URL: http://www.ti.com/; ComponentLink2Description: Datasheet; ComponentLink2URL: http://www.ti.com/general/docs/lit/getliterature.tsp?genericPartNumber=UCC281-5&fileType=pdf; ComponentLink3Description: Package Specification; ComponentLink3URL: http://www.ti.com/litv/pdf/msoi002j; ComponentLink4Description: URL Link1; ComponentLink4URL: Samples URL:http://www.ti.com/product/ucc281-5#samples
footprint TI-D8_N (SOIC, 8-Leads, Body 4.9x3.9mm, Pitch 1.27mm, IPC Medium Density)
footprint TI-D8_L (SOIC, 8-Leads, Body 4.9x3.9mm, Pitch 1.27mm, IPC High Density)
footprint TI-D8_M (SOIC, 8-Leads, Body 4.9x3.9mm, Pitch 1.27mm, IPC Low Density)
pins: 1 VOUT (power) "Output for regulator. The regulator does not require a minimum output capacitor for stability. Choose the appropriate size capacitor for the application with respect to the required transient loading. For example, if the (See Datasheet)", 2 GND (power) "All voltages are measured with respect to this pin.This is the low noise ground reference input for regulation. The output decoupling capacitor should be tied to PIN 7.", 3 GND (power) "All voltages are measured with respect to this pin.This is the low noise ground reference input for regulation. The output decoupling capacitor should be tied to PIN 7.", 4 VOUTS (in) "Feedback for regulator sensing of the output voltage. For loads which are a considerable resistive distance from the VOUT pin, the VOUTS pin can be used to move the resistance into the control loop of the regulator,thereby (See Datasheet)", 5 NC "No connection", 6 GND (power) "All voltages are measured with respect to this pin.This is the low noise ground reference input for regulation. The output decoupling capacitor should be tied to PIN 7.", 7 GND (power) "All voltages are measured with respect to this pin.This is the low noise ground reference input for regulation. The output decoupling capacitor should be tied to PIN 7.", 8 VIN (power) "Positive supply input for the regulator. Bypass this pin to GND with at least 1µF of low ESR, ESL capacitance if the source is located further than 1 inch from the device."

## UCC281DPTR-ADJ
designator U?
Single Output LDO, 1 A, Adjustable 1.2 to 8.8 V Output, 1.8 to 9 V Input, with Low IQ, 8-pin SOIC (D), -40 to 85 degC, Green (RoHS & no Sb/Br); Manufacturer: Texas Instruments; PartNumber: UCC281DPTR-ADJ; Accuracy(%): 2.5; Iout(Max)(A): 1; Iq(Typ)(mA): 0.4; Rating: Catalog; SubFamily: Single Channel LDO; Vdo(Typ)(mV): 500; Vin(Max)(V): 9; Vin(Min)(V): 1.8; Vout Adj(Max)(V): 8.8; Vout Adj(Min)(V): 1.2; DatasheetVersion: SLUS214B; PackageVersion: 4040047-3/M; PackageReference: D8; PackageDescription: 8-Pin Plastic Small Outline, Body 4.9 x 3.9 mm, Pitch 1.27 mm; Supplier 1: Digi-Key; Supplier Part Number 1: UCC281DPTR-ADJ-ND; Supplier 2: Mouser; Supplier Part Number 2: 595-UCC281DPTR-ADJ; Eco-Plan: Green (RoHS & no Sb/Br); Mounting Technology: Surface Mount; Code_JEDEC: MS-012; ComponentLink1Description: Manufacturer URL; ComponentLink1URL: http://www.ti.com/; ComponentLink2Description: Datasheet; ComponentLink2URL: http://www.ti.com/general/docs/lit/getliterature.tsp?genericPartNumber=UCC281-ADJ&fileType=pdf; ComponentLink3Description: Package Specification; ComponentLink3URL: http://www.ti.com/litv/pdf/msoi002j; ComponentLink4Description: URL Link1; ComponentLink4URL: Samples URL:http://www.ti.com/product/ucc281-adj#samples
footprint TI-D8_N (SOIC, 8-Leads, Body 4.9x3.9mm, Pitch 1.27mm, IPC Medium Density)
footprint TI-D8_L (SOIC, 8-Leads, Body 4.9x3.9mm, Pitch 1.27mm, IPC High Density)
footprint TI-D8_M (SOIC, 8-Leads, Body 4.9x3.9mm, Pitch 1.27mm, IPC Low Density)
pins: 1 VOUT (power) "Output for regulator. The regulator does not require a minimum output capacitor for stability. Choose the appropriate size capacitor for the application with respect to the required transient loading. For example, if the (See Datasheet)", 2 GND (power) "All voltages are measured with respect to this pin.This is the low noise ground reference input for regulation. The output decoupling capacitor should be tied to PIN 7.", 3 GND (power) "All voltages are measured with respect to this pin.This is the low noise ground reference input for regulation. The output decoupling capacitor should be tied to PIN 7.", 4 VOUTS (in) "Feedback for regulator sensing of the output voltage. For loads which are a considerable resistive distance from the VOUT pin, the VOUTS pin can be used to move the resistance into the control loop of the regulator,thereby (See Datasheet)", 5 CT (in) "For UCC381-3 and UCC381-5 versions, this is the shutdown pin which, when pulled low, turns off the regulator output and puts the device in a low current state.For the UCC381-ADJ version, a capacitor is required between the (See Datasheet)", 6 GND (power) "All voltages are measured with respect to this pin.This is the low noise ground reference input for regulation. The output decoupling capacitor should be tied to PIN 7.", 7 GND (power) "All voltages are measured with respect to this pin.This is the low noise ground reference input for regulation. The output decoupling capacitor should be tied to PIN 7.", 8 VIN (power) "Positive supply input for the regulator. Bypass this pin to GND with at least 1µF of low ESR, ESL capacitance if the source is located further than 1 inch from the device."